# Altium footprint library KEMET_ESKXXXXXXXXC3XX.PcbLib: 1 footprints
Each footprint in its own frame and in the unit in brackets; x right, y up, seen from the top. Pads: shape width x height; smd on the part's side, far side on the other; paste and mask are expansions set on the pad; w line width, h text height; cw(c..) or ccw(c..) is an arc to the next point about the centre after c.
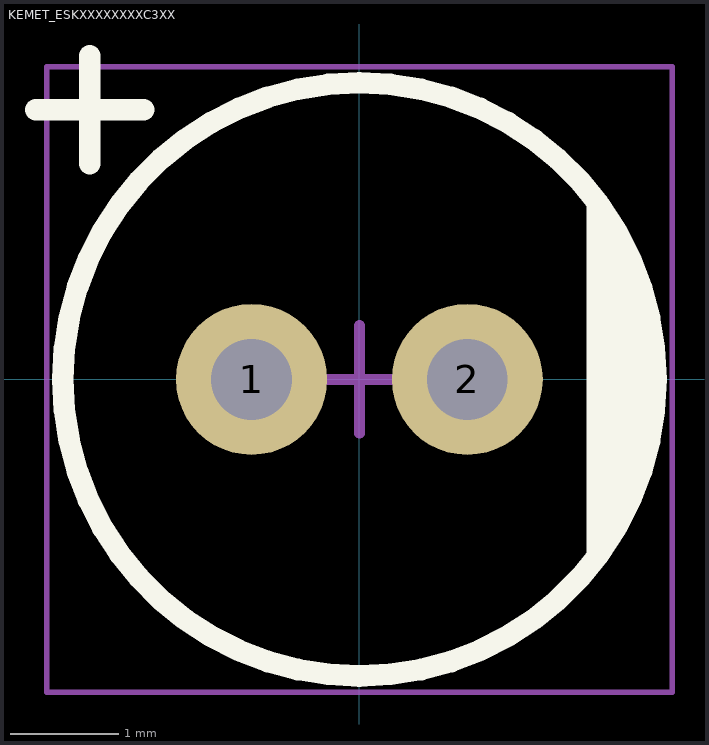
[diagram p0: the footprint, top view; thin cyan lines are the x and y axes]

## KEMET_ESKXXXXXXXXC3XX [mm] "KEMET_ESKXXXXXXXXC3XX"
height 12.5
pads (2):
  round 1.4 hole 0.75 mask+0.05: 1(-1,0) 2(1,0)
Top Overlay:
  circle w0.2: c0,0 r2.75
  region: 2.107,-1.768 2.261,-1.583 2.502,-1.167 2.666,-0.714 2.75,-0.241 2.75,0.241 2.666,0.714 2.502,1.167 2.261,1.583 2.107,1.768
  lines w0.2: -3,2.5 -2,2.5 ; -2.5,2 -2.5,3
Mechanical 13:
  circle w0.1: c0,0 r2.75
Mechanical 15:
  lines w0.05: -2.9,-2.9 -2.9,2.9 2.9,2.9 2.9,-2.9 -2.9,-2.9
  lines w0.1: -0.5,0 0.5,0 ; 0,-0.5 0,0.5
3D body "KEMET_ESKXXXXXXXXC3XX.step": height 12.52, standoff -19.99, extent -2.745,-2.75 2.745,2.75